# Altium schematic symbol library AT25F512B.SchLib: 1 symbol
Pins are listed as number, name and electrical type; pins without a type are passive.

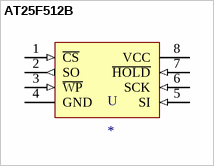
[diagram p0: symbol AT25F512B]

## AT25F512B
designator U
MEMORY, DATAFLASH, 512K, SPI, 8SOIC; farnell: 1715445
footprint SOIC127P600-8N
pins: 1 ~{CS} (in), 2 SO (out), 3 ~{WP} (in), 4 GND (power), 5 SI (in), 6 SCK (in), 7 ~{HOLD} (in), 8 VCC (power)